# Altium schematic symbol library SCH - INTERFACE - SPI - LT1761-BYP.SCHLIB: 1 symbol
Pins are listed as number, name and electrical type; pins without a type are passive.

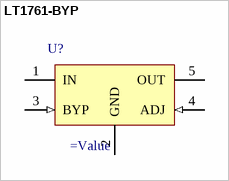
[diagram p0: symbol LT1761-BYP]

## LT1761-BYP
designator U?
LDO Voltage Regulator, Adjustable, 1.8V to 20V in, 300mV drop, 1.22V to 20V/0.1A out, TSOT-23-5
pins: 1 IN (power), 2 GND (power), 3 BYP (in), 4 ADJ (in), 5 OUT (power)